# EAGLE library part SH-7050MB (library SH-7050MB)
Copal Electronics SH-7000, 16 Position SP16T Rotary Switch, 100 mA, Gull Wing Source: Datasheet
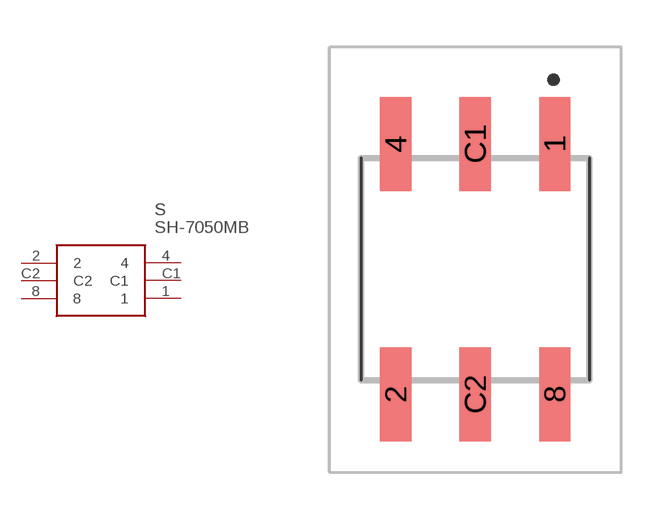
[diagram p0: symbol with the pads of SH7050MB; footprint SH7050MB]

Designator prefix S

## SH-7050MB (Description: Copal Electronics SH-7000, 16 Position SP16T Rotary Switch, 100 mA, Gull Wing; Height: 3.75mm; Manufacturer_Name: Nidec Copal; Manufacturer_Part_Number: SH-7050MB; Mouser_Part_Number: 229-SH-7050MB; Mouser_Price-Stock: https://www.mouser.co.uk/ProductDetail/Nidec-Components/SH-7050MB?qs=XeJtXLiO41RDpFTGiyYBpQ%3D%3D)  [SH7050MB]
1  1
2  2
4  4
8  8
C1  C1
C2  C2

## Footprint SH7050MB (pad centres in mm)
SH-7050MB-1
smd 1 x 3: 1 2.54,4; 2 -2.54,-4; 4 -2.54,4; 8 2.54,-4; C1 0,4; C2 0,-4